# EAGLE library part SD_CARD_READER (library macrocketry_2019)
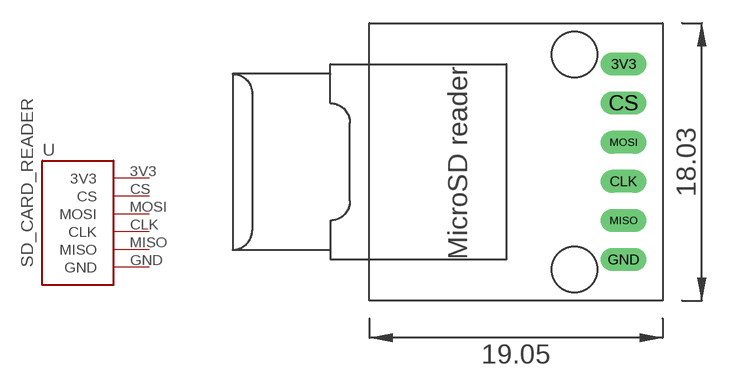
[diagram p1: symbol with the pads of MICRO_SD_READER_3V3; footprint MICRO_SD_READER_3V3]

Designator prefix -

## SD_CARD_READER  [MICRO_SD_READER_3V3]
3V3  3V3
CLK  CLK
CS  CS
GND  GND
MISO  MISO
MOSI  MOSI

## Footprint MICRO_SD_READER_3V3 (pad centres in mm)
drill 1 long: 3V3 5.08,6.35; CLK 5.08,-1.27; CS 5.08,3.81; GND 5.08,-6.35; MISO 5.08,-3.81; MOSI 5.08,1.27